# EAGLE library part HDR-1X17 (library con-hdrs40)
HEADER CONNECTOR
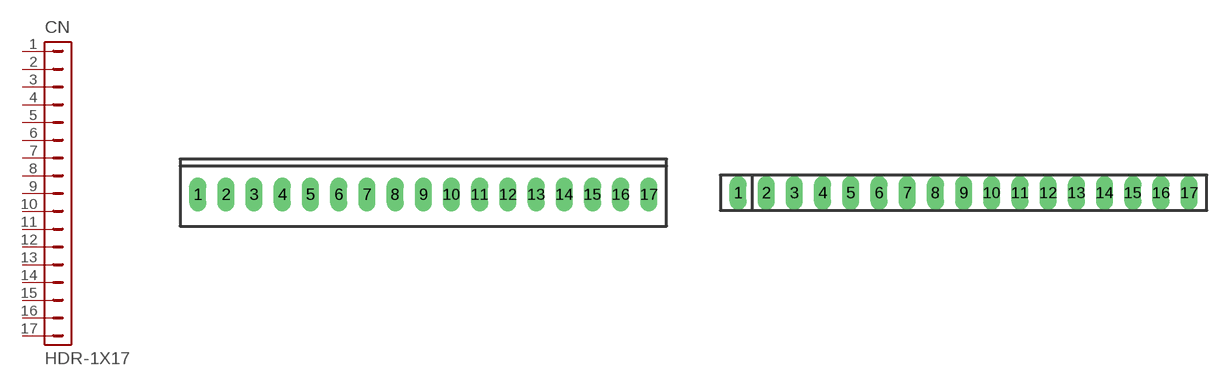
[diagram p11: symbol with the pads of MTA-100-17V; footprints MTA-100-17V, SIP-100-17V]

Designator prefix CN

## HDR-1X17-MTA-100  [MTA-100-17V]
1  1  pas
2  2  pas
3  3  pas
4  4  pas
5  5  pas
6  6  pas
7  7  pas
8  8  pas
9  9  pas
10  10  pas
11  11  pas
12  12  pas
13  13  pas
14  14  pas
15  15  pas
16  16  pas
17  17  pas

## HDR-1X17-SIP-100  [SIP-100-17V]
Pads as for MTA-100-17V

## Footprint MTA-100-17V (pad centres in mm)
AMP MTA Vertical .100" 17 pin
drill 1.016 long: 1 -20.32,0; 2 -17.78,0; 3 -15.24,0; 4 -12.7,0; 5 -10.16,0; 6 -7.62,0; 7 -5.08,0; 8 -2.54,0; 9 0,0; 10 2.54,0; 11 5.08,0; 12 7.62,0; 13 10.16,0; 14 12.7,0; 15 15.24,0; 16 17.78,0; 17 20.32,0

## Footprint SIP-100-17V (pad centres in mm)
SIP Header Vertical 100" 17 pin
drill 1.016 long: 1 -20.32,0; 2 -17.78,0; 3 -15.24,0; 4 -12.7,0; 5 -10.16,0; 6 -7.62,0; 7 -5.08,0; 8 -2.54,0; 9 0,0; 10 2.54,0; 11 5.08,0; 12 7.62,0; 13 10.16,0; 14 12.7,0; 15 15.24,0; 16 17.78,0; 17 20.32,0